# Altium footprint library 直流无刷.PcbLib: 36 footprints (part 2 of 3)
Each footprint in its own frame and in the unit in brackets; x right, y up, seen from the top. Pads: shape width x height; smd on the part's side, far side on the other; paste and mask are expansions set on the pad; w line width, h text height; cw(c..) or ccw(c..) is an arc to the next point about the centre after c.
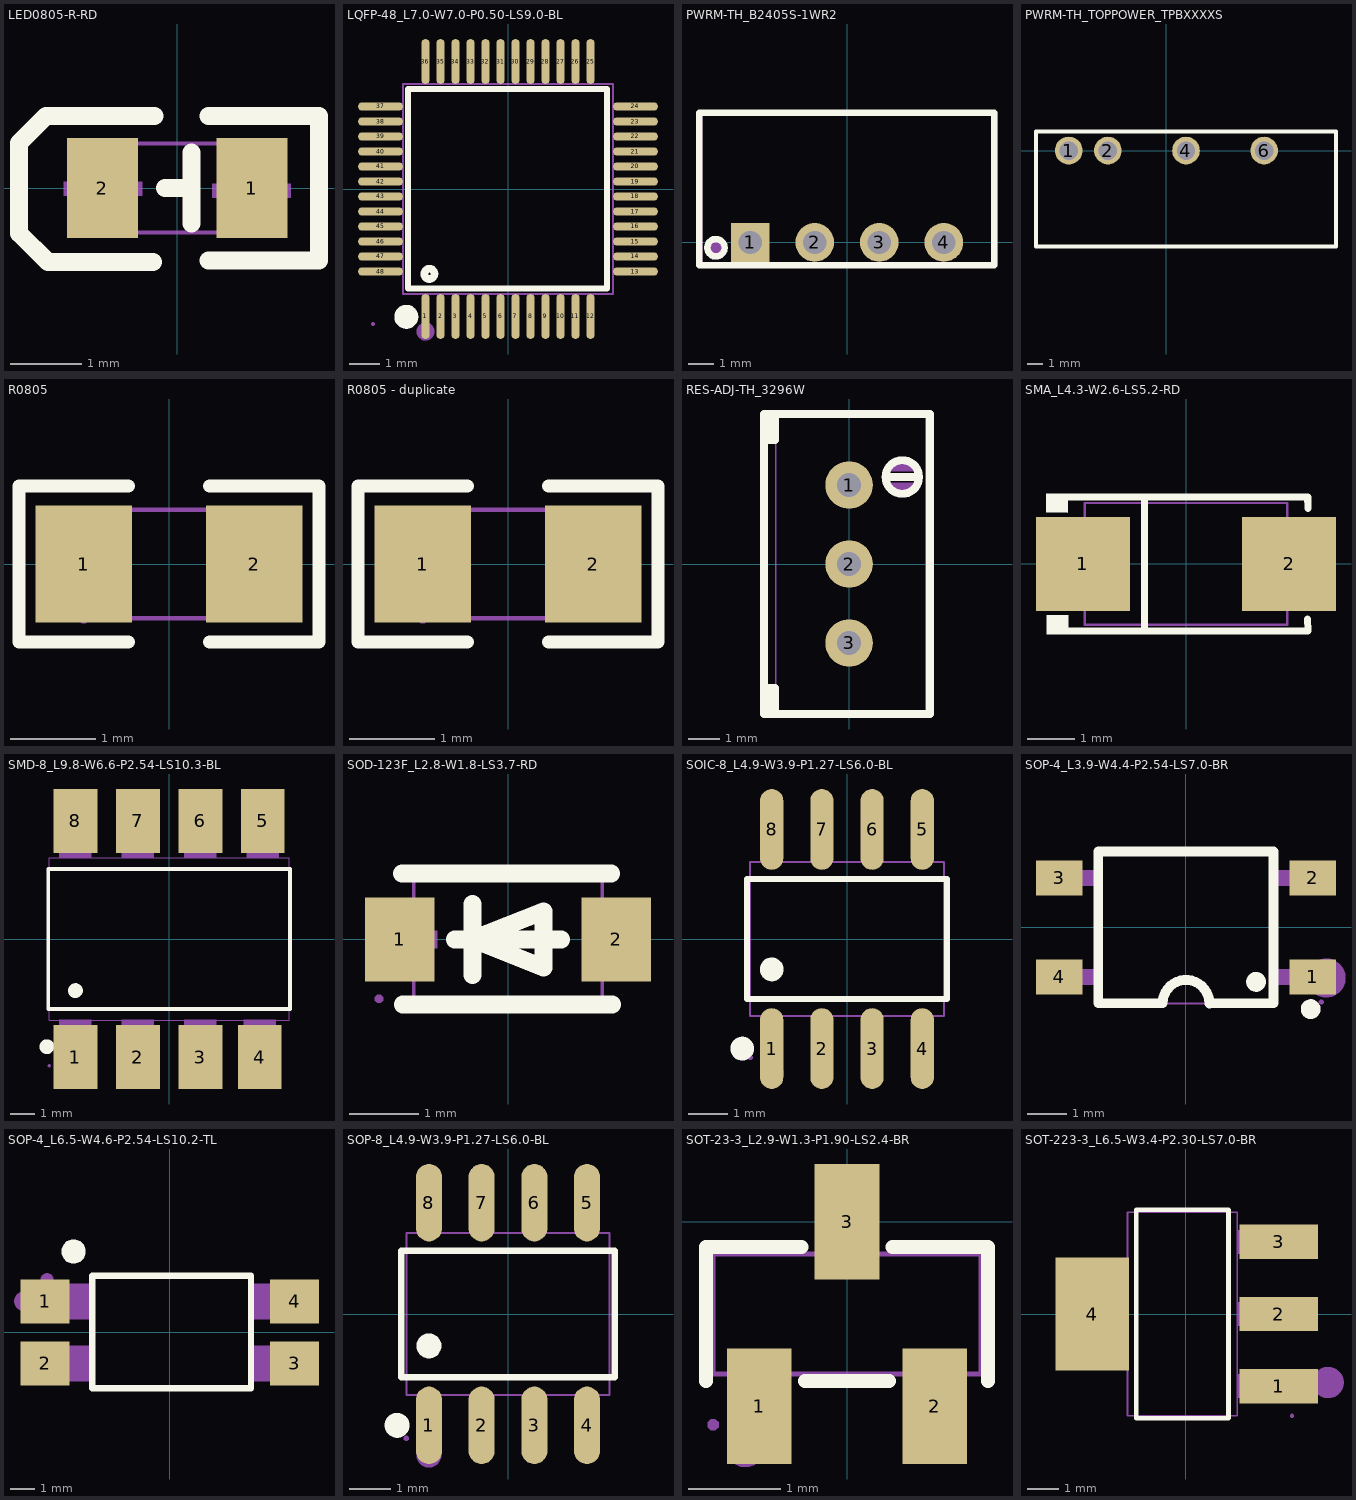
[diagram p1: the footprints below, top view; thin cyan lines are the x and y axes]

## LED0805-R-RD [mm]
pads (2):
  rect 1x1.4 smd mask+0.051: 1(1.05,0) 2(-1.05,0)
Top Overlay:
  lines w0.254: -0.344,-1.043 -1.817,-1.043 -2.224,-0.636 -2.224,0.634 -1.843,1.015 -0.319,1.015 ; -0.169,0 0.1,0 ; 0.2,-0.5 0.2,0.5 ; 0.443,-1.017 1.993,-1.017 1.993,1.015 0.443,1.015
Mechanical 6:
  region: 0.941,-0.556 0.941,0.544 1.141,0.544 1.141,-0.556
  region: 0.494,0.06 1.594,0.06 1.594,-0.14 0.494,-0.14
  region: -0.494,-0.109 -1.594,-0.109 -1.594,0.091 -0.494,0.091
Mechanical 15:
  region: 1.06,0.625 1.06,0.65 1.025,0.685 0.975,0.685 0.94,0.65 0.94,0.625 0.94,0.6 0.975,0.565 1.025,0.565 1.06,0.6
  region: 1,-0.625 0.6,-0.625 0.6,0.625 1,0.625
  region: -0.6,-0.625 -1,-0.625 -1,0.625 -0.6,0.625
  lines w0.051: -1,-0.625 -1,0.625 1,0.625 1,-0.625 -1,-0.625

## LQFP-48_L7.0-W7.0-P0.50-LS9.0-BL [mm]
pads (48):
  oval 0.27x1.5 smd mask+0.05: 1(-2.75,-4.25) 2(-2.25,-4.25) 3(-1.75,-4.25) 4(-1.25,-4.25) 5(-0.75,-4.25) 6(-0.25,-4.25) 7(0.25,-4.25) 8(0.75,-4.25) 9(1.25,-4.25) 10(1.75,-4.25) 11(2.25,-4.25) 12(2.75,-4.25) 25(2.75,4.25) 26(2.25,4.25) 27(1.75,4.25) 28(1.25,4.25) 29(0.75,4.25) 30(0.25,4.25) 31(-0.25,4.25) 32(-0.75,4.25) 33(-1.25,4.25) 34(-1.75,4.25) 35(-2.25,4.25) 36(-2.75,4.25)
  oval 1.5x0.27 smd mask+0.05: 13(4.25,-2.75) 14(4.25,-2.25) 15(4.25,-1.75) 16(4.25,-1.25) 17(4.25,-0.75) 18(4.25,-0.25) 19(4.25,0.25) 20(4.25,0.75) 21(4.25,1.25) 22(4.25,1.75) 23(4.25,2.25) 24(4.25,2.75) 37(-4.25,2.75) 38(-4.25,2.25) 39(-4.25,1.75) 40(-4.25,1.25) 41(-4.25,0.75) 42(-4.25,0.25) 43(-4.25,-0.25) 44(-4.25,-0.75) 45(-4.25,-1.25) 46(-4.25,-1.75) 47(-4.25,-2.25) 48(-4.25,-2.75)
Top Overlay:
  circle w0.254: c-2.62,-2.83 r0.17
  lines w0.2: -2.896,3.34 3.302,3.34 3.302,-3.315 -3.327,-3.315 -3.327,3.34 -2.565,3.34
  lines w0.4: -3.39,-4.06 ccw(c-3.389,-4.26) -3.387,-4.06
Mechanical 6:
  circle w0.3: c-2.75,-4.75 r0.15
Mechanical 15:
  drawing of 101 lines, arcs and shapes, not listed

## PWRM-TH_B2405S-1WR2 [mil]
pads (4):
  rect 60x60 hole 36 paste+0 mask+2: 1(-150,0)
  round 60 hole 36 paste+0 mask+2: 2(-50,0) 3(50,0) 4(150,0)
Top Overlay:
  circle w10: c-202.96,-8.26 r13.45
  lines w10: 227.86,200.79 -228.74,200.79 -228.74,-35.41 228.35,-35.41 ; 228.35,-35.43 228.35,200.79
Mechanical 6:
  circle w15.75: c-202.96,-8.26 r7.87
  region: 224.41,-35.43 224.41,196.85 -224.41,196.85 -224.41,-35.43 -228.35,-35.43 -232.28,-31.5 -232.28,200.79 -228.35,204.72 228.35,204.72 232.28,200.79 232.28,-35.43 228.35,-39.37 224.41,-39.37
Mechanical 15:
  region: -225.99,-35.43 -225.99,-34.45 -227.37,-33.07 -229.33,-33.07 -230.71,-34.45 -230.71,-35.43 -230.71,-36.41 -229.33,-37.79 -227.37,-37.79 -225.99,-36.41
  region: 140.16,5.91 159.84,5.91 159.84,-5.91 140.16,-5.91
  region: 40.16,5.91 59.84,5.91 59.84,-5.91 40.16,-5.91
  region: -59.84,5.91 -40.16,5.91 -40.16,-5.91 -59.84,-5.91
  region: -159.84,5.91 -140.16,5.91 -140.16,-5.91 -159.84,-5.91
  lines w2: -228.35,-35.43 -228.35,200.79 228.35,200.79 228.35,-35.43 -228.35,-35.43

## PWRM-TH_TOPPOWER_TPBXXXXS [mm]
pads (4):
  round 1.8 hole 1.2 mask+0.051: 1(-6.35,0) 2(-3.81,0) 4(1.27,0) 6(6.35,0)
Top Overlay:
  lines w0.254: -8.48,-6.25 11.02,-6.25 11.02,1.25 -8.48,1.25 -8.48,-6.25

## R0805 [mm]
pads (2):
  rect 1.133x1.377 smd mask+0.051: 1(-1,0) 2(1,0)
Top Overlay:
  lines w0.152: -0.476,-0.917 -1.761,-0.917 -1.761,0.917 -0.476,0.917 ; 0.476,-0.917 1.761,-0.917 1.761,0.917 0.476,0.917
Top Paste:
  region: -1.7,-0.64 -1.7,0.64 -1.65,0.69 -0.5,0.69 -0.45,0.64 -0.445,0.23 -0.895,0.23 -0.895,-0.22 -0.455,-0.22 -0.45,-0.64 -0.5,-0.69 -1.65,-0.69
  region: 0.45,-0.64 0.45,-0.22 0.895,-0.22 0.895,0.23 0.455,0.23 0.45,0.64 0.5,0.69 1.65,0.69 1.7,0.64 1.7,-0.64 1.65,-0.69 0.5,-0.69
Mechanical 15:
  region: -0.94,-0.638 -0.94,-0.613 -0.975,-0.578 -1.025,-0.578 -1.06,-0.613 -1.06,-0.638 -1.06,-0.662 -1.025,-0.698 -0.975,-0.698 -0.94,-0.662
  region: -1,-0.637 -1,0.637 -0.6,0.637 -0.6,-0.637
  region: 1,-0.637 1,0.637 0.6,0.637 0.6,-0.637
  lines w0.051: -1,-0.637 -1,0.637 1,0.637 1,-0.637 -1,-0.637

## R0805 - duplicate [mm]
pads (2):
  rect 1.133x1.377 smd mask+0.051: 1(-1,0) 2(1,0)
Top Overlay:
  lines w0.152: -0.476,-0.917 -1.761,-0.917 -1.761,0.917 -0.476,0.917 ; 0.476,-0.917 1.761,-0.917 1.761,0.917 0.476,0.917
Top Paste:
  region: -1.7,-0.64 -1.7,0.64 -1.65,0.69 -0.5,0.69 -0.45,0.64 -0.445,0.23 -0.895,0.23 -0.895,-0.22 -0.455,-0.22 -0.45,-0.64 -0.5,-0.69 -1.65,-0.69
  region: 0.45,-0.64 0.45,-0.22 0.895,-0.22 0.895,0.23 0.455,0.23 0.45,0.64 0.5,0.69 1.65,0.69 1.7,0.64 1.7,-0.64 1.65,-0.69 0.5,-0.69
Mechanical 15:
  region: -0.94,-0.638 -0.94,-0.613 -0.975,-0.578 -1.025,-0.578 -1.06,-0.613 -1.06,-0.638 -1.06,-0.662 -1.025,-0.698 -0.975,-0.698 -0.94,-0.662
  region: -1,-0.637 -1,0.637 -0.6,0.637 -0.6,-0.637
  region: 1,-0.637 1,0.637 0.6,0.637 0.6,-0.637
  lines w0.051: -1,-0.637 -1,0.637 1,0.637 1,-0.637 -1,-0.637

## RES-ADJ-TH_3296W [mil]
pads (3):
  round 60 hole 30 mask+2: 1(0,100) 2(0,-0.01) 3(0,-100)
Top Overlay:
  lines w10: 52.36,110.4 67.36,110.4 ; 88.61,110 cw(c67.35,110.2) 88.61,110.4 ; 67.36,110.4 82.36,110.4 67.36,110.4 ; -107.64,-190 102.36,-190 102.36,190 -107.64,190 -107.64,-190 ; -101.58,-187 -93.71,-187 -93.71,-157 -101.58,-157 -101.58,-187 ; -101.58,157.01 -93.71,157.01 -93.71,187.01 -101.58,187.01 -101.58,157.01
Mechanical 6:
  region: 87.27,117.65 86.13,120.69 82.14,125.81 76.81,129.51 70.61,131.45 64.12,131.45 57.92,129.51 52.58,125.81 48.59,120.69 47.45,117.65
  region: 47.45,103.15 48.59,100.11 52.58,94.99 57.92,91.29 64.11,89.35 70.61,89.35 76.8,91.29 82.14,94.99 86.13,100.11 87.27,103.15
Mechanical 15:
  region: -90.36,187.6 -90.36,188.58 -91.74,189.96 -93.7,189.96 -95.08,188.58 -95.08,187.6 -95.08,186.62 -93.7,185.24 -91.74,185.24 -90.36,186.62
  region: 9.84,100.4 9.84,102.36 8.34,105.97 5.57,108.74 1.96,110.24 -1.96,110.24 -5.57,108.74 -8.34,105.97 -9.84,102.36 -9.84,100.4 -9.84,98.44 -8.34,94.83 -5.57,92.06 -1.96,90.56 1.96,90.56 5.57,92.06 8.34,94.83 9.84,98.44
  region: 9.84,0.4 9.84,2.36 8.34,5.97 5.57,8.74 1.96,10.24 -1.96,10.24 -5.57,8.74 -8.34,5.97 -9.84,2.36 -9.84,0.4 -9.84,-1.56 -8.34,-5.17 -5.57,-7.94 -1.96,-9.44 1.96,-9.44 5.57,-7.94 8.34,-5.17 9.84,-1.56
  region: 9.84,-100.39 9.84,-98.43 8.34,-94.82 5.57,-92.05 1.96,-90.55 -1.96,-90.55 -5.57,-92.05 -8.34,-94.82 -9.84,-98.43 -9.84,-100.39 -9.84,-102.35 -8.34,-105.96 -5.57,-108.73 -1.96,-110.23 1.96,-110.23 5.57,-108.73 8.34,-105.96 9.84,-102.35
  lines w2: -92.72,-187.59 97.44,-187.59 97.44,187.6 -92.72,187.6 -92.72,-187.59

## SMA_L4.3-W2.6-LS5.2-RD [mm]
pads (2):
  rect 2x2 smd mask+0.051: 1(-2.2,0) 2(2.2,0)
Top Overlay:
  region: -2.512,-1.096 -2.513,-1.503 -2.973,-1.498 -2.969,-1.096
  region: -2.52,1.502 -2.521,1.096 -2.981,1.1 -2.977,1.502
  lines w0.152: -2.596,-1.426 2.596,-1.426 ; -2.596,1.426 2.596,1.426 2.603,1.187 ; -0.884,-1.426 -0.884,1.426 ; 2.593,-1.176 2.6,-1.415
Mechanical 6:
  region: 2.014,-0.675 2.014,0.675 1.811,0.675 1.811,-0.675
  region: 2.29,-0.09 2.29,0.112 1.48,0.112 1.48,-0.09
  region: -2.317,-0.101 -2.317,0.101 -1.507,0.101 -1.507,-0.101
Mechanical 15:
  region: -1.48,0.725 -1.48,-0.725 -2.605,-0.725 -2.605,0.725
  region: 2.605,0.725 2.605,-0.725 1.48,-0.725 1.48,0.725
  region: -2.545,-1.3 -2.545,-1.275 -2.58,-1.24 -2.63,-1.24 -2.665,-1.275 -2.665,-1.3 -2.665,-1.325 -2.63,-1.36 -2.58,-1.36 -2.545,-1.325
  lines w0.051: -2.16,-1.3 2.16,-1.3 2.16,1.3 -2.16,1.3 -2.16,-1.3

## SMD-8_L9.8-W6.6-P2.54-LS10.3-BL [mm]
pads (8):
  rect 1.78x2.6 smd paste+0 mask+0.051: 1(-3.81,-4.8) 2(-1.27,-4.8) 3(1.27,-4.8) 4(3.683,-4.8) 5(3.81,4.8) 6(1.27,4.8) 7(-1.27,4.8) 8(-3.81,4.8)
Top Overlay:
  circle w0.3: c-3.81,-2.099 r0.15
  circle w0.3: c-4.974,-4.38 r0.15
  lines w0.152: -4.916,-2.851 -4.916,2.851 4.916,2.851 4.916,-2.851 -4.916,-2.851
Mechanical 6:
  circle w0.6: c-3.81,-5.334 r0.3
Mechanical 15:
  region: -4.82,-5.15 -4.82,-5.125 -4.855,-5.09 -4.905,-5.09 -4.94,-5.125 -4.94,-5.15 -4.94,-5.175 -4.905,-5.21 -4.855,-5.21 -4.82,-5.175
  region: 3.16,3.29 3.16,4.56 4.46,4.56 4.46,3.29
  region: 3.16,4.55 3.16,5.15 4.46,5.15 4.46,4.55
  region: 0.62,3.29 0.62,4.56 1.92,4.56 1.92,3.29
  region: 0.62,4.55 0.62,5.15 1.92,5.15 1.92,4.55
  region: -1.92,3.29 -1.92,4.56 -0.62,4.56 -0.62,3.29
  region: -1.92,4.55 -1.92,5.15 -0.62,5.15 -0.62,4.55
  region: -4.46,3.29 -4.46,4.56 -3.16,4.56 -3.16,3.29
  region: -4.46,4.55 -4.46,5.15 -3.16,5.15 -3.16,4.55
  region: 3.033,-4.56 3.033,-3.29 4.333,-3.29 4.333,-4.56
  region: 3.033,-5.15 3.033,-4.55 4.333,-4.55 4.333,-5.15
  region: 0.62,-4.56 0.62,-3.29 1.92,-3.29 1.92,-4.56
  region: 0.62,-5.15 0.62,-4.55 1.92,-4.55 1.92,-5.15
  region: -1.92,-4.56 -1.92,-3.29 -0.62,-3.29 -0.62,-4.56
  region: -1.92,-5.15 -1.92,-4.55 -0.62,-4.55 -0.62,-5.15
  region: -4.46,-4.56 -4.46,-3.29 -3.16,-3.29 -3.16,-4.56
  region: -4.46,-5.15 -4.46,-4.55 -3.16,-4.55 -3.16,-5.15
  lines w0.051: -4.88,-3.3 -4.88,3.3 4.88,3.3 4.88,-3.3 -4.88,-3.3

## SOD-123F_L2.8-W1.8-LS3.7-RD [mm]
pads (2):
  rect 1x1.2 smd mask+0.051: 1(-1.55,0) 2(1.55,0)
Top Overlay:
  lines w0.254: -1.52,0.947 1.48,0.947 ; -1.507,-0.933 1.493,-0.933 ; -0.762,0 0.762,0 ; -0.508,-0.508 -0.508,0.508 ; -0.508,0 0.508,0.406 0.508,-0.406 -0.508,0
Mechanical 6:
  region: 1.143,0.127 2.032,0.127 2.032,-0.127 1.143,-0.127
  region: 1.471,-0.436 1.471,0.453 1.725,0.453 1.725,-0.436
  region: -1.905,0.127 -1.016,0.127 -1.016,-0.127 -1.905,-0.127
Mechanical 15:
  region: 1.3,-0.5 1.3,0.5 1.85,0.5 1.85,-0.5
  region: -1.85,-0.5 -1.85,0.5 -1.3,0.5 -1.3,-0.5
  region: -1.79,-0.85 -1.79,-0.825 -1.825,-0.79 -1.875,-0.79 -1.91,-0.825 -1.91,-0.85 -1.91,-0.875 -1.875,-0.91 -1.825,-0.91 -1.79,-0.875
  lines w0.051: -1.35,-0.85 1.35,-0.85 1.35,0.85 -1.35,0.85 -1.35,-0.85

## SOIC-8_L4.9-W3.9-P1.27-LS6.0-BL [mm]
pads (8):
  oval 0.588x2.045 smd mask+0.051: 1(-1.905,-2.772) 2(-0.635,-2.772) 3(0.635,-2.772) 4(1.905,-2.772) 5(1.905,2.772) 6(0.635,2.772) 7(-0.635,2.772) 8(-1.905,2.772)
Top Overlay:
  circle w0.3: c-1.905,-0.769 r0.15
  circle w0.3: c-2.652,-2.772 r0.15
  lines w0.152: -2.526,-1.521 -2.526,1.521 2.526,1.521 2.526,-1.521 -2.526,-1.521
Mechanical 6:
  circle w0.3: c-1.905,-3.4 r0.15
Mechanical 15:
  region: -2.39,-3 -2.39,-2.975 -2.425,-2.94 -2.475,-2.94 -2.51,-2.975 -2.51,-3 -2.51,-3.025 -2.475,-3.06 -2.425,-3.06 -2.39,-3.025
  region: -2.115,-3 -2.115,-2.165 -1.695,-2.165 -1.695,-3
  region: -2.115,-2.175 -2.115,-1.94 -1.695,-1.94 -1.695,-2.175
  region: -0.845,-3 -0.845,-2.165 -0.425,-2.165 -0.425,-3
  region: -0.845,-2.175 -0.845,-1.94 -0.425,-1.94 -0.425,-2.175
  region: 0.425,-3 0.425,-2.165 0.845,-2.165 0.845,-3
  region: 0.425,-2.175 0.425,-1.94 0.845,-1.94 0.845,-2.175
  region: 1.695,-3 1.695,-2.165 2.115,-2.165 2.115,-3
  region: 1.695,-2.175 1.695,-1.94 2.115,-1.94 2.115,-2.175
  region: -2.115,3 -2.115,2.165 -1.695,2.165 -1.695,3
  region: -2.115,2.175 -2.115,1.94 -1.695,1.94 -1.695,2.175
  region: -0.845,3 -0.845,2.165 -0.425,2.165 -0.425,3
  region: -0.845,2.175 -0.845,1.94 -0.425,1.94 -0.425,2.175
  region: 0.425,3 0.425,2.165 0.845,2.165 0.845,3
  region: 0.425,2.175 0.425,1.94 0.845,1.94 0.845,2.175
  region: 1.695,3 1.695,2.165 2.115,2.165 2.115,3
  region: 1.695,2.175 1.695,1.94 2.115,1.94 2.115,2.175
  lines w0.051: -2.45,-1.95 -2.45,1.95 2.45,1.95 2.45,-1.95 -2.45,-1.95

## SOP-4_L3.9-W4.4-P2.54-LS7.0-BR [mm]
pads (4):
  rect 1.199x0.9 smd paste+0 mask+0.051: 1(3.25,-1.27) 2(3.25,1.27) 3(-3.25,1.27) 4(-3.25,-1.27)
Top Overlay:
  circle w0.254: c1.8,-1.4 r0.127
  circle w0.254: c3.2,-2.1 r0.127
  lines w0.254: -2.25,1.95 -2.25,-1.95 -0.6,-1.95 cw(c0,-1.95) 0.599,-1.95 ; -2.2,1.95 2.2,1.95 ; 0.6,-1.95 2.25,-1.95 2.25,1.95
Mechanical 6:
  circle w0.5: c3.6,-1.3 r0.25
Mechanical 15:
  region: 3,-1.47 3,-1.07 3.5,-1.07 3.5,-1.47
  region: 2.19,-1.47 2.19,-1.07 3.01,-1.07 3.01,-1.47
  region: 3,1.07 3,1.47 3.5,1.47 3.5,1.07
  region: 2.19,1.07 2.19,1.47 3.01,1.47 3.01,1.07
  region: -3.5,1.07 -3.5,1.47 -3,1.47 -3,1.07
  region: -3.01,1.07 -3.01,1.47 -2.19,1.47 -2.19,1.07
  region: -3.5,-1.47 -3.5,-1.07 -3,-1.07 -3,-1.47
  region: -3.01,-1.47 -3.01,-1.07 -2.19,-1.07 -2.19,-1.47
  region: 3.53,-1.92 3.53,-1.895 3.495,-1.86 3.445,-1.86 3.41,-1.895 3.41,-1.92 3.41,-1.945 3.445,-1.98 3.495,-1.98 3.53,-1.945
  lines w0.051: -2.2,-1.95 2.2,-1.95 2.2,1.95 -2.2,1.95 -2.2,-1.95

## SOP-4_L6.5-W4.6-P2.54-LS10.2-TL [mm]
pads (4):
  rect 2x1.8 smd mask+0.051: 1(-5.1,1.27) 2(-5.1,-1.27) 3(5.1,-1.27) 4(5.1,1.27)
Top Overlay:
  region: -4.423,3.302 -4.423,3.205 -4.349,3.027 -4.212,2.891 -4.033,2.817 -3.84,2.817 -3.661,2.891 -3.525,3.028 -3.451,3.207 -3.451,3.4 -3.525,3.578 -3.661,3.715 -3.84,3.789 -4.033,3.79 -4.212,3.716 -4.349,3.579 -4.423,3.401 -4.423,3.304
  lines w0.254: -3.175,-2.286 3.325,-2.286 3.325,2.314 -3.175,2.314 -3.175,-2.286
Mechanical 6:
  circle w0.4: c-5.969,1.27 r0.2
Mechanical 15:
  region: -4.769,2.163 -4.769,2.213 -4.808,2.307 -4.879,2.378 -4.972,2.417 -5.073,2.417 -5.167,2.378 -5.238,2.307 -5.277,2.213 -5.277,2.163 -5.277,2.112 -5.238,2.019 -5.167,1.948 -5.073,1.909 -4.972,1.909 -4.879,1.948 -4.808,2.019 -4.769,2.112
  region: -4.55,0.545 -5.15,0.545 -5.15,1.995 -4.55,1.995
  region: -3.24,0.545 -4.56,0.545 -4.56,1.995 -3.24,1.995
  region: -4.55,-1.995 -5.15,-1.995 -5.15,-0.545 -4.55,-0.545
  region: -3.24,-1.995 -4.56,-1.995 -4.56,-0.545 -3.24,-0.545
  region: 5.15,-1.995 4.55,-1.995 4.55,-0.545 5.15,-0.545
  region: 4.56,-1.995 3.24,-1.995 3.24,-0.545 4.56,-0.545
  region: 5.15,0.545 4.55,0.545 4.55,1.995 5.15,1.995
  region: 4.56,0.545 3.24,0.545 3.24,1.995 4.56,1.995
  lines w0.051: -3.25,-2.29 3.25,-2.29 3.25,2.29 -3.25,2.29 -3.25,-2.29

## SOP-8_L4.9-W3.9-P1.27-LS6.0-BL [mm]
pads (8):
  oval 0.63x1.865 smd: 1(-1.905,-2.682) 2(-0.635,-2.682) 3(0.635,-2.682) 4(1.905,-2.682) 5(1.905,2.682) 6(0.635,2.682) 7(-0.635,2.682) 8(-1.905,2.682)
Top Overlay:
  circle w0.3: c-2.672,-2.682 r0.15
  circle w0.3: c-1.905,-0.769 r0.15
  lines w0.152: -2.576,-1.521 2.576,-1.521 2.576,1.521 -2.576,1.521 -2.576,-1.521
Mechanical 6:
  circle w0.3: c-1.905,-3.4 r0.15
Mechanical 15:
  region: -2.115,-3 -2.115,-2.165 -1.695,-2.165 -1.695,-3
  region: -2.115,-2.175 -2.115,-1.94 -1.695,-1.94 -1.695,-2.175
  region: -0.845,-3 -0.845,-2.165 -0.425,-2.165 -0.425,-3
  region: -0.845,-2.175 -0.845,-1.94 -0.425,-1.94 -0.425,-2.175
  region: 0.425,-3 0.425,-2.165 0.845,-2.165 0.845,-3
  region: 0.425,-2.175 0.425,-1.94 0.845,-1.94 0.845,-2.175
  region: 1.695,-3 1.695,-2.165 2.115,-2.165 2.115,-3
  region: 1.695,-2.175 1.695,-1.94 2.115,-1.94 2.115,-2.175
  region: -2.115,2.165 -2.115,3 -1.695,3 -1.695,2.165
  region: -2.115,1.94 -2.115,2.175 -1.695,2.175 -1.695,1.94
  region: -0.845,2.165 -0.845,3 -0.425,3 -0.425,2.165
  region: -0.845,1.94 -0.845,2.175 -0.425,2.175 -0.425,1.94
  region: 0.425,2.165 0.425,3 0.845,3 0.845,2.165
  region: 0.425,1.94 0.425,2.175 0.845,2.175 0.845,1.94
  region: 1.695,2.165 1.695,3 2.115,3 2.115,2.165
  region: 1.695,1.94 1.695,2.175 2.115,2.175 2.115,1.94
  region: -2.39,-3 -2.39,-2.975 -2.425,-2.94 -2.475,-2.94 -2.51,-2.975 -2.51,-3 -2.51,-3.025 -2.475,-3.06 -2.425,-3.06 -2.39,-3.025
  lines w0.051: -2.45,-1.95 2.45,-1.95 2.45,1.95 -2.45,1.95 -2.45,-1.95

## SOT-23-3_L2.9-W1.3-P1.90-LS2.4-BR [mm]
pads (3):
  rect 0.7x1.25 smd mask+0.051: 1(-0.95,-2) 2(0.95,-2) 3(0,0)
Top Overlay:
  lines w0.152: -1.526,-1.726 -1.526,-0.274 -0.495,-0.274 ; -0.455,-1.726 0.455,-1.726 ; 0.495,-0.274 1.526,-0.274 1.526,-1.726
Mechanical 6:
  circle w0.2: c-1.1,-2.46 r0.1
Mechanical 15:
  region: -1.45,-2.26 -1.425,-2.26 -1.39,-2.225 -1.39,-2.175 -1.425,-2.14 -1.45,-2.14 -1.475,-2.14 -1.51,-2.175 -1.51,-2.225 -1.475,-2.26
  region: 0.735,-1.64 1.165,-1.64 1.165,-1.91 0.735,-1.91
  region: 0.735,-1.9 1.165,-1.9 1.165,-2.2 0.735,-2.2
  region: -1.165,-1.64 -0.735,-1.64 -0.735,-1.91 -1.165,-1.91
  region: -1.165,-1.9 -0.735,-1.9 -0.735,-2.2 -1.165,-2.2
  region: -0.215,-0.09 0.215,-0.09 0.215,-0.36 -0.215,-0.36
  region: -0.215,0.2 0.215,0.2 0.215,-0.1 -0.215,-0.1
  lines w0.051: -1.45,-1.65 1.45,-1.65 1.45,-0.35 -1.45,-0.35 -1.45,-1.65

## SOT-223-3_L6.5-W3.4-P2.30-LS7.0-BR [mm]
pads (4):
  rect 2.5x1.1 smd mask+0.051: 1(2.97,-2.3) 2(2.97,0) 3(2.97,2.3)
  rect 2.34x3.6 smd mask+0.051: 4(-2.97,0)
Top Overlay:
  lines w0.152: -1.571,-3.326 -1.571,3.326 1.371,3.326 1.371,-3.326 -1.571,-3.326
Mechanical 6:
  circle w0.5: c4.552,-2.188 r0.25
Mechanical 15:
  region: 3.46,-3.25 3.46,-3.225 3.425,-3.19 3.375,-3.19 3.34,-3.225 3.34,-3.25 3.34,-3.275 3.375,-3.31 3.425,-3.31 3.46,-3.275
  region: 1.64,1.925 1.64,2.675 2.66,2.675 2.66,1.925
  region: 2.65,1.925 2.65,2.675 3.4,2.675 3.4,1.925
  region: 1.64,-0.375 1.64,0.375 2.66,0.375 2.66,-0.375
  region: 2.65,-0.375 2.65,0.375 3.4,0.375 3.4,-0.375
  region: 1.64,-2.675 1.64,-1.925 2.66,-1.925 2.66,-2.675
  region: 2.65,-2.675 2.65,-1.925 3.4,-1.925 3.4,-2.675
  region: -2.86,-1.5 -2.86,1.5 -1.84,1.5 -1.84,-1.5
  region: -3.6,-1.5 -3.6,1.5 -2.85,1.5 -2.85,-1.5
  lines w0.051: -1.85,-3.25 -1.85,3.25 1.65,3.25 1.65,-3.25 -1.85,-3.25